# EAGLE library part CC2650MODAMOHR (library cc2650moda)
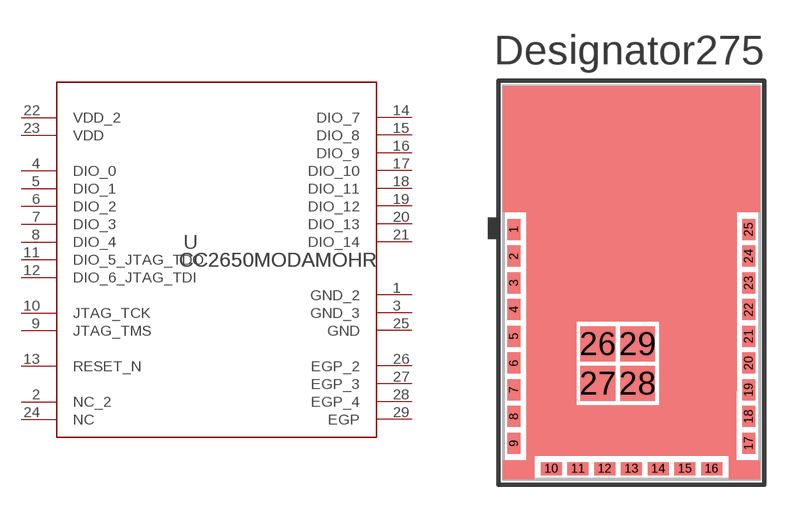
[diagram p0: symbol with the pads of MOH0029A; footprint MOH0029A]

Designator prefix U

## CC2650MODAMOHR  [MOH0029A]
1  GND_2  pwr
2  NC_2  pas
3  GND_3  pwr
4  DIO_0
5  DIO_1
6  DIO_2
7  DIO_3
8  DIO_4
9  JTAG_TMS
10  JTAG_TCK
11  DIO_5_JTAG_TDO
12  DIO_6_JTAG_TDI
13  RESET_N  in
14  DIO_7
15  DIO_8
16  DIO_9
17  DIO_10
18  DIO_11
19  DIO_12
20  DIO_13
21  DIO_14
22  VDD_2  pwr
23  VDD  pwr
24  NC  pas
25  GND  pwr
26  EGP_2  pwr
27  EGP_3  pwr
28  EGP_4  pwr
29  EGP  pwr

## Footprint MOH0029A (pad centres in mm)
smd 0.55 x 0.9: 1 -5.05,2.3; 2 -5.05,1.15; 3 -5.05,0; 4 -5.05,-1.15; 5 -5.05,-2.3; 6 -5.05,-3.45; 7 -5.05,-4.6; 8 -5.05,-5.75; 9 -5.05,-6.9; 17 5.05,-6.9; 18 5.05,-5.75; 19 5.05,-4.6; 20 5.05,-3.45; 21 5.05,-2.3; 22 5.05,-1.15; 23 5.05,0; 24 5.05,1.15; 25 5.05,2.3
smd 0.9 x 0.55: 10 -3.45,-8; 11 -2.3,-8; 12 -1.15,-8; 13 0,-8; 14 1.15,-8; 15 2.3,-8; 16 3.45,-8
smd 1.5 x 1.5: 26 -1.435,-2.625; 27 -1.435,-4.325; 28 0.265,-4.325; 29 0.265,-2.625